# Altium footprint library RESAD4700W80L1900D700.PcbLib: 1 footprints
Each footprint in its own frame and in the unit in brackets; x right, y up, seen from the top. Pads: shape width x height; smd on the part's side, far side on the other; paste and mask are expansions set on the pad; w line width, h text height; cw(c..) or ccw(c..) is an arc to the next point about the centre after c.
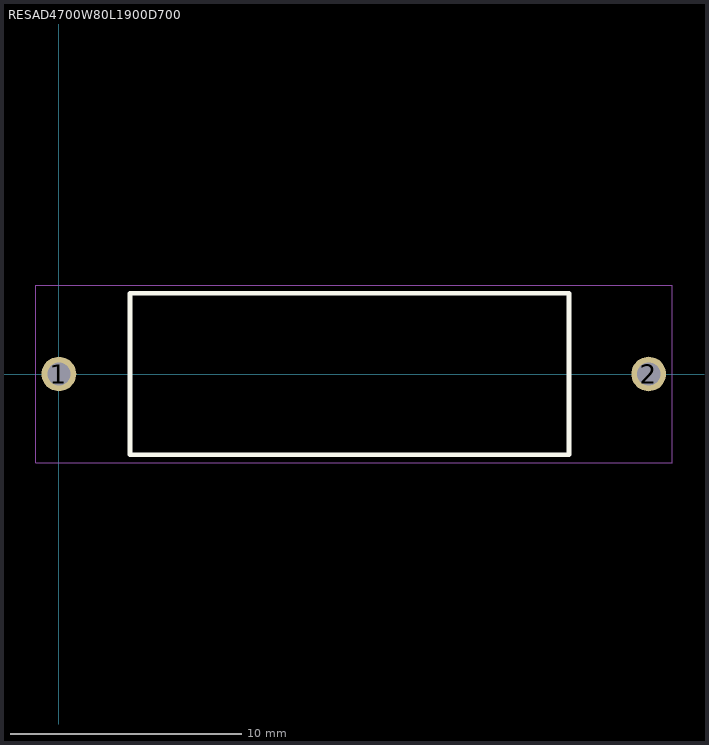
[diagram p0: the footprint, top view; thin cyan lines are the x and y axes]

## RESAD4700W80L1900D700 [mm]
pads (2):
  round 1.5 hole 1: 1(0,0) 2(25.527,0)
Top Overlay:
  lines w0.2: 3.078,-3.5 22.078,-3.5 22.078,3.5 3.078,3.5 3.078,-3.5
Mechanical 13:
  lines w0.05: -1,-3.85 26.543,-3.85 26.543,3.85 -1,3.85 -1,-3.85
  lines w0.1: 3.078,-3.5 3.078,3.5 22.078,3.5 22.078,-3.5 3.078,-3.5
3D body "step_temp.STEP": height 7, standoff -32.89, extent -0.381,-3.5 25.919,3.5